# EAGLE library part RN4871 (library Goodies)
The RN487x modules, based on Microchip's IS187x Bluetooth LE ICs, provide a complete solution to implement Bluetooth 4.2 Low Energy connectivity.
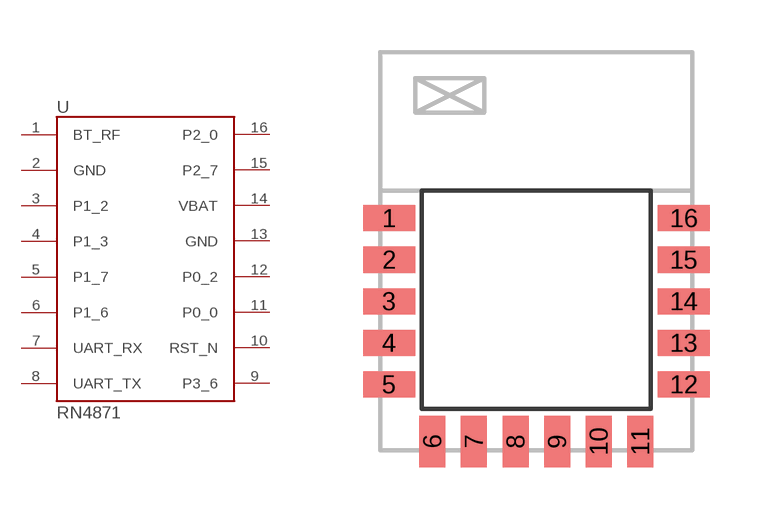
[diagram p7: symbol with the pads of RN4871; footprint RN4871]

Designator prefix U

## RN4871  [RN4871]
1  BT_RF
2  GND  pwr
3  P1_2
4  P1_3
5  P1_7
6  P1_6
7  UART_RX  in
8  UART_TX  out
9  P3_6
10  RST_N  in
11  P0_0
12  P0_2
13  GND  pwr
14  VBAT  pwr
15  P2_7
16  P2_0  in

## Footprint RN4871 (pad centres in mm)
Footprint for RN4871, based on datasheet Pad 0.5mm wider than in datasheet UNTESTED
smd 1.5 x 0.75: 1 -4.25,0.95; 2 -4.25,-0.25; 3 -4.25,-1.45; 4 -4.25,-2.65; 5 -4.25,-3.85; 12 4.25,-3.85; 13 4.25,-2.65; 14 4.25,-1.45; 15 4.25,-0.25; 16 4.25,0.95
smd 0.75 x 1.5: 6 -3,-5.5; 7 -1.8,-5.5; 8 -0.6,-5.5; 9 0.6,-5.5; 10 1.8,-5.5; 11 3,-5.5